# EAGLE library part M06X2 (library X893)
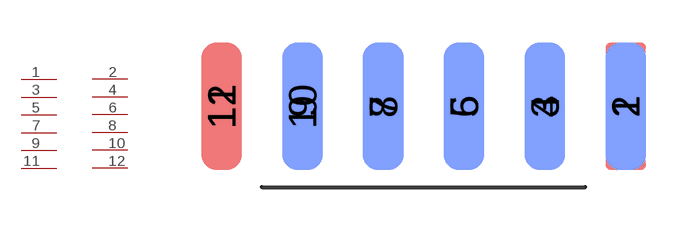
[diagram p215: symbol with the pads of PLANAR-6X2; footprint PLANAR-6X2]

Designator prefix CN

## M06X2  [PLANAR-6X2]
1  1
2  2
3  3
4  4
5  5
6  6
7  7
8  8
9  9
10  10
11  11
12  12

## Footprint PLANAR-6X2 (pad centres in mm)
smd 1.27 x 4: 1 6.35,2.54; 3 3.81,2.54; 5 1.27,2.54; 7 -1.27,2.54; 9 -3.81,2.54; 11 -6.35,2.54
smd 1.27 x 4 bottom: 2 6.35,2.54; 4 3.81,2.54; 6 1.27,2.54; 8 -1.27,2.54; 10 -3.81,2.54; 12 -6.35,2.54